# Altium footprint library FootprintLib.PcbLib: 194 footprints (part 9 of 13)
Each footprint in its own frame and in the unit in brackets; x right, y up, seen from the top. Pads: shape width x height; smd on the part's side, far side on the other; paste and mask are expansions set on the pad; w line width, h text height; cw(c..) or ccw(c..) is an arc to the next point about the centre after c.
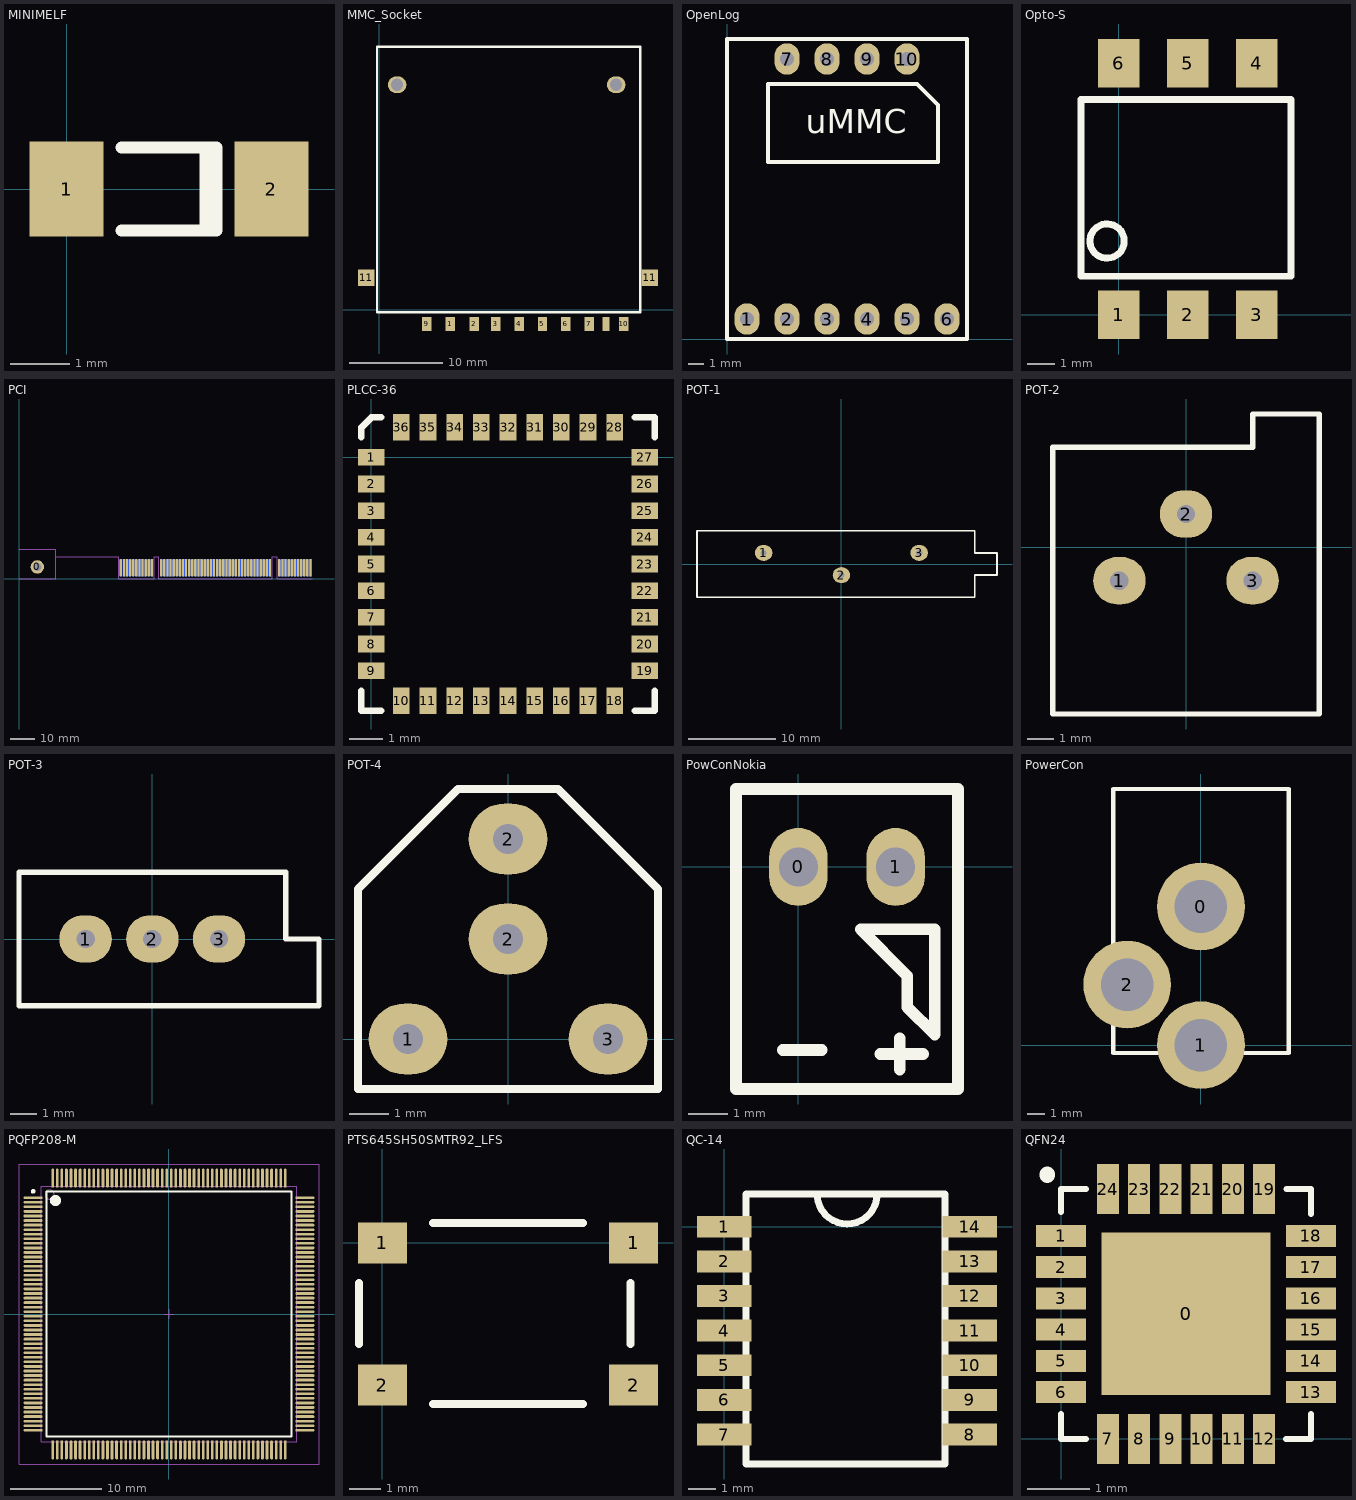
[diagram p8: the footprints below, top view; thin cyan lines are the x and y axes]

## MINIMELF [mm]
height 1.5
pads (2):
  rect 1.25x1.6 smd: 1(0,0) 2(3.45,0)
Top Overlay:
  lines w0.2: 0.925,-0.7 2.525,-0.7 2.525,0.7 0.925,0.7 ; 2.335,-0.7 2.335,0.7

## MMC_Socket [mil]
height 15
pads (14):
  rect 40x60 smd: 1(300,-60) 2(400,-60) 3(492.13,-60) 4(590.55,-60) 5(688.98,-60) 6(787.4,-60) 7(885.83,-60) 9(200,-60) 10(1031.5,-60)
  rect 30x60 smd: 8(956.69,-60)
  rect 70x70 smd: 11(-55.12,135) 11(1141.73,135)
  oval 78.74x70.87 hole 51.18 paste+40 mask+20: "Hole 1"(75,950)
  oval 78.74x70.87 hole 51.18 paste+20 mask+20: "Hole 2"(1000,950)
Top Overlay:
  lines w9.84: -10,-10 1102.36,-10 1102.36,1110 -10,1110 -10,-10

## OpenLog [mm]
height 5
pads (10):
  oval 1.6x2 hole 0.9: 1(1.27,1.27) 2(3.81,1.27) 3(6.35,1.27) 4(8.89,1.27) 5(11.43,1.27) 6(13.97,1.27) 7(3.81,17.78) 8(6.35,17.78) 9(8.89,17.78) 10(11.43,17.78)
Top Overlay:
  lines w0.254: 2.6,16.1 2.6,11.252 13.4,11.252 13.4,14.87 12.07,16.2 2.6,16.2 ; 0,0 15.24,0 15.24,19.05 0,19.05 0,0
  text "uMMC" at 5.004,13.056 h1.52

## Opto-S [mm]
height 4.3
pads (6):
  rect 1.524x1.78 smd: 1(0,0) 2(2.54,0) 3(5.08,0) 4(5.08,9.27) 5(2.54,9.27) 6(0,9.27)
Top Overlay:
  circle w0.254: c-0.432,2.718 r0.631
  lines w0.254: -1.4,7.925 6.35,7.925 6.35,1.425 ; -1.397,7.922 -1.397,1.422 6.353,1.422

## PCI [mm]
pads (117):
  round 5.5 hole 3.2: 0(7.5,4.83)
  rrect50% 0.95x7 smd far side: A1(41.6,4.5) A2(42.87,4.5) A3(44.14,4.5) A4(45.41,4.5) A5(46.68,4.5) A6(47.95,4.5) A7(49.22,4.5) A8(50.49,4.5) A9(51.76,4.5) A10(53.03,4.5) A11(54.3,4.5) A14(58.11,4.5) A15(59.38,4.5) A16(60.65,4.5) A17(61.92,4.5) A18(63.19,4.5) A19(64.46,4.5) A20(65.73,4.5) A21(67,4.5) A22(68.27,4.5) A23(69.54,4.5) A24(70.81,4.5) A25(72.08,4.5) A26(73.35,4.5) A27(74.62,4.5) A28(75.89,4.5) A29(77.16,4.5) A30(78.43,4.5) A31(79.7,4.5) A32(80.97,4.5) A33(82.24,4.5) A34(83.51,4.5) A35(84.78,4.5) A36(86.05,4.5) A37(87.32,4.5) A38(88.59,4.5) A39(89.86,4.5) A40(91.13,4.5) A41(92.4,4.5) A42(93.67,4.5) A43(94.94,4.5) A44(96.21,4.5) A45(97.48,4.5) A46(98.75,4.5) A47(100.02,4.5) A48(101.29,4.5) A49(102.56,4.5) A52(106.38,4.5) A53(107.65,4.5) A54(108.92,4.5) A55(110.19,4.5) A56(111.46,4.5) A57(112.73,4.5) A58(114,4.5) A59(115.27,4.5) A60(116.54,4.5) A61(117.81,4.5) A62(119.08,4.5)
  rrect50% 0.95x7 smd: B1(41.6,4.5) B2(42.87,4.5) B3(44.14,4.5) B4(45.41,4.5) B5(46.68,4.5) B6(47.95,4.5) B7(49.22,4.5) B8(50.49,4.5) B9(51.76,4.5) B10(53.03,4.5) B11(54.3,4.5) B14(58.11,4.5) B15(59.38,4.5) B16(60.65,4.5) B17(61.92,4.5) B18(63.19,4.5) B19(64.46,4.5) B20(65.73,4.5) B21(67,4.5) B22(68.27,4.5) B23(69.54,4.5) B24(70.81,4.5) B25(72.08,4.5) B26(73.35,4.5) B27(74.62,4.5) B28(75.89,4.5) B29(77.16,4.5) B30(78.43,4.5) B31(79.7,4.5) B32(80.97,4.5) B33(82.24,4.5) B34(83.51,4.5) B35(84.78,4.5) B36(86.05,4.5) B37(87.32,4.5) B38(88.59,4.5) B39(89.86,4.5) B40(91.13,4.5) B41(92.4,4.5) B42(93.67,4.5) B43(94.94,4.5) B44(96.21,4.5) B45(97.48,4.5) B46(98.75,4.5) B47(100.02,4.5) B48(101.29,4.5) B49(102.56,4.5) B52(106.38,4.5) B53(107.65,4.5) B54(108.92,4.5) B55(110.19,4.5) B56(111.46,4.5) B57(112.73,4.5) B58(114,4.5) B59(115.27,4.5) B60(116.54,4.5) B61(117.81,4.5) B62(119.08,4.5)
Mechanical 1:
  lines w0.1: 0,0 15.01,0 15.01,9 40.77,9 40.77,0 55.28,0 55.28,9 57.14,9 57.14,0 103.57,0 103.57,9 105.43,9 105.43,0 119.91,0 ; 0,12.07 15.01,12.07 15.01,8.71

## PLCC-36 [mm]
pads (36):
  rect 0.8x0.5 smd: 1(0,0) 2(0,-0.8) 3(0,-1.6) 4(0,-2.4) 5(0,-3.2) 6(0,-4) 7(0,-4.8) 8(0,-5.6) 9(0,-6.4) 19(8.2,-6.4) 20(8.2,-5.6) 21(8.2,-4.8) 22(8.2,-4) 23(8.2,-3.2) 24(8.2,-2.4) 25(8.2,-1.6) 26(8.2,-0.8) 27(8.2,0)
  rect 0.5x0.8 smd: 10(0.9,-7.3) 11(1.7,-7.3) 12(2.5,-7.3) 13(3.3,-7.3) 14(4.1,-7.3) 15(4.9,-7.3) 16(5.7,-7.3) 17(6.5,-7.3) 18(7.3,-7.3) 28(7.3,0.9) 29(6.5,0.9) 30(5.7,0.9) 31(4.9,0.9) 32(4.1,0.9) 33(3.3,0.9) 34(2.5,0.9) 35(1.7,0.9) 36(0.9,0.9)
Top Overlay:
  lines w0.2: -0.3,-7 -0.3,-7.6 0.3,-7.6 ; -0.3,0.6 -0.3,0.9 0,1.2 0.3,1.2 ; 7.9,-7.6 8.5,-7.6 8.5,-7 ; 7.9,1.2 8.5,1.2 8.5,0.6

## POT-1 [mm] "Tapped Resistor; 3 Leads"
pads (3):
  oval 2x1.8 hole 0.7: 1(-8.89,1.27) 2(0,-1.27) 3(8.89,1.27)
Top Overlay:
  lines w0.2: -16.51,-3.81 -16.51,3.81 15.24,3.81 15.24,1.27 17.78,1.27 17.78,-1.27 15.24,-1.27 15.24,-3.81 -16.51,-3.81

## POT-2 [mm] "Feed-Through Capacitor; 3 Leads"
pads (3):
  oval 2x1.8 hole 0.7: 1(-2.54,-1.27) 2(0,1.27) 3(2.54,-1.27)
Top Overlay:
  lines w0.2: -5.08,-6.35 5.08,-6.35 5.08,5.08 2.54,5.08 2.54,3.81 -5.08,3.81 -5.08,-6.35

## POT-3 [mm] "Potentiometer; 3 Leads"
pads (3):
  oval 2x1.8 hole 0.7: 1(-2.54,0) 2(0,0) 3(2.54,0)
Top Overlay:
  lines w0.2: -5.08,-2.54 6.35,-2.54 6.35,0 5.08,0 5.08,2.54 -5.08,2.54 -5.08,-2.54

## POT-4 [mm]
pads (4):
  oval 2x1.8 hole 0.762: 1(-2.54,0) 2(0,2.54) 2(0,5.08) 3(2.54,0)
Top Overlay:
  lines w0.2: -3.81,-1.27 3.81,-1.27 3.81,3.81 1.27,6.35 -1.27,6.35 -3.81,3.81 -3.81,-1.27

## PowConNokia [mm]
height 4
pads (2):
  oval 1.5x2 hole 1: 0(0,0) 1(2.5,0)
Top Overlay:
  lines w0.3: -0.4,-4.7 0.6,-4.7 ; 2.1,-4.8 3.2,-4.8 ; 2.6,-5.2 2.6,-4.4 ; -1.6,-5.7 -1.6,2 4.1,2 4.1,-5.7 -1.6,-5.7 ; 1.6,-1.6 3.5,-1.6 3.5,-4.3 2.8,-3.6 2.8,-2.8 1.6,-1.6

## PowerCon [mm]
pads (3):
  round 5 hole 3: 0(0,7.9) 1(0,0) 2(-4.2,3.45)
Top Overlay:
  lines w0.25: -5,14.55 -5,-0.45 5,-0.45 ; -5,14.6 5,14.6 5,-0.4

## PQFP208-M [mm]
height 4.1
pads (208):
  oval 2.1x0.3 smd: 1(-14.9,12.75) 2(-14.9,12.25) 3(-14.9,11.75) 4(-14.9,11.25) 5(-14.9,10.75) 6(-14.9,10.25) 7(-14.9,9.75) 8(-14.9,9.25) 9(-14.9,8.75) 10(-14.9,8.25) 11(-14.9,7.75) 12(-14.9,7.25) 13(-14.9,6.75) 14(-14.9,6.25) 15(-14.9,5.75) 16(-14.9,5.25) 17(-14.9,4.75) 18(-14.9,4.25) 19(-14.9,3.75) 20(-14.9,3.25) 21(-14.9,2.75) 22(-14.9,2.25) 23(-14.9,1.75) 24(-14.9,1.25) 25(-14.9,0.75) 26(-14.9,0.25) 27(-14.9,-0.25) 28(-14.9,-0.75) 29(-14.9,-1.25) 30(-14.9,-1.75) 31(-14.9,-2.25) 32(-14.9,-2.75) 33(-14.9,-3.25) 34(-14.9,-3.75) 35(-14.9,-4.25) 36(-14.9,-4.75) 37(-14.9,-5.25) 38(-14.9,-5.75) 39(-14.9,-6.25) 40(-14.9,-6.75) 41(-14.9,-7.25) 42(-14.9,-7.75) 43(-14.9,-8.25) 44(-14.9,-8.75) 45(-14.9,-9.25) 46(-14.9,-9.75) 47(-14.9,-10.25) 48(-14.9,-10.75) 49(-14.9,-11.25) 50(-14.9,-11.75) 51(-14.9,-12.25) 52(-14.9,-12.75) 105(14.9,-12.75) 106(14.9,-12.25) 107(14.9,-11.75) 108(14.9,-11.25) 109(14.9,-10.75) 110(14.9,-10.25) 111(14.9,-9.75) 112(14.9,-9.25) 113(14.9,-8.75) 114(14.9,-8.25) 115(14.9,-7.75) 116(14.9,-7.25) 117(14.9,-6.75) 118(14.9,-6.25) 119(14.9,-5.75) 120(14.9,-5.25) 121(14.9,-4.75) 122(14.9,-4.25) 123(14.9,-3.75) 124(14.9,-3.25) 125(14.9,-2.75) 126(14.9,-2.25) 127(14.9,-1.75) 128(14.9,-1.25) 129(14.9,-0.75) 130(14.9,-0.25) 131(14.9,0.25) 132(14.9,0.75) 133(14.9,1.25) 134(14.9,1.75) 135(14.9,2.25) 136(14.9,2.75) 137(14.9,3.25) 138(14.9,3.75) 139(14.9,4.25) 140(14.9,4.75) 141(14.9,5.25) 142(14.9,5.75) 143(14.9,6.25) 144(14.9,6.75) 145(14.9,7.25) 146(14.9,7.75) 147(14.9,8.25) 148(14.9,8.75) 149(14.9,9.25) 150(14.9,9.75) 151(14.9,10.25) 152(14.9,10.75) 153(14.9,11.25) 154(14.9,11.75) 155(14.9,12.25) 156(14.9,12.75)
  oval 0.3x2.1 smd: 53(-12.75,-14.9) 54(-12.25,-14.9) 55(-11.75,-14.9) 56(-11.25,-14.9) 57(-10.75,-14.9) 58(-10.25,-14.9) 59(-9.75,-14.9) 60(-9.25,-14.9) 61(-8.75,-14.9) 62(-8.25,-14.9) 63(-7.75,-14.9) 64(-7.25,-14.9) 65(-6.75,-14.9) 66(-6.25,-14.9) 67(-5.75,-14.9) 68(-5.25,-14.9) 69(-4.75,-14.9) 70(-4.25,-14.9) 71(-3.75,-14.9) 72(-3.25,-14.9) 73(-2.75,-14.9) 74(-2.25,-14.9) 75(-1.75,-14.9) 76(-1.25,-14.9) 77(-0.75,-14.9) 78(-0.25,-14.9) 79(0.25,-14.9) 80(0.75,-14.9) 81(1.25,-14.9) 82(1.75,-14.9) 83(2.25,-14.9) 84(2.75,-14.9) 85(3.25,-14.9) 86(3.75,-14.9) 87(4.25,-14.9) 88(4.75,-14.9) 89(5.25,-14.9) 90(5.75,-14.9) 91(6.25,-14.9) 92(6.75,-14.9) 93(7.25,-14.9) 94(7.75,-14.9) 95(8.25,-14.9) 96(8.75,-14.9) 97(9.25,-14.9) 98(9.75,-14.9) 99(10.25,-14.9) 100(10.75,-14.9) 101(11.25,-14.9) 102(11.75,-14.9) 103(12.25,-14.9) 104(12.75,-14.9) 157(12.75,14.9) 158(12.25,14.9) 159(11.75,14.9) 160(11.25,14.9) 161(10.75,14.9) 162(10.25,14.9) 163(9.75,14.9) 164(9.25,14.9) 165(8.75,14.9) 166(8.25,14.9) 167(7.75,14.9) 168(7.25,14.9) 169(6.75,14.9) 170(6.25,14.9) 171(5.75,14.9) 172(5.25,14.9) 173(4.75,14.9) 174(4.25,14.9) 175(3.75,14.9) 176(3.25,14.9) 177(2.75,14.9) 178(2.25,14.9) 179(1.75,14.9) 180(1.25,14.9) 181(0.75,14.9) 182(0.25,14.9) 183(-0.25,14.9) 184(-0.75,14.9) 185(-1.25,14.9) 186(-1.75,14.9) 187(-2.25,14.9) 188(-2.75,14.9) 189(-3.25,14.9) 190(-3.75,14.9) 191(-4.25,14.9) 192(-4.75,14.9) 193(-5.25,14.9) 194(-5.75,14.9) 195(-6.25,14.9) 196(-6.75,14.9) 197(-7.25,14.9) 198(-7.75,14.9) 199(-8.25,14.9) 200(-8.75,14.9) 201(-9.25,14.9) 202(-9.75,14.9) 203(-10.25,14.9) 204(-10.75,14.9) 205(-11.25,14.9) 206(-11.75,14.9) 207(-12.25,14.9) 208(-12.75,14.9)
Top Overlay:
  circle w0.25: c-14.9,13.45 r0.125
  circle w0.6: c-12.45,12.45 r0.3
  lines w0.2: -13.45,-13.45 -13.45,13.45 13.45,13.45 13.45,-13.45 -13.45,-13.45
Mechanical 13:
  circle w0.1: c-13.1,13.1 r0.5
  lines w0.1: -14,-14 -14,14 14,14 14,-14 -14,-14
Mechanical 15:
  lines w0.1: -0.5,0 0.5,0 ; 0,-0.5 0,0.5 ; -16.45,-16.45 -16.45,16.45 16.45,16.45 16.45,-16.45 -16.45,-16.45
3D body: height 4.1, standoff 0, extent -14,-14 14,14

## PTS645SH50SMTR92_LFS [mm] "Tactile switch"
pads (4):
  rect 1.55x1.3 smd: 1(0,0) 1(7.95,0) 2(0,-4.5) 2(7.95,-4.5)
Top Overlay:
  lines w0.254: -0.737,-3.2 -0.737,-1.27 ; 1.6,-5.105 6.35,-5.105 ; 1.6,0.635 6.35,0.635 ; 7.849,-3.2 7.849,-1.27

## QC-14 [mm]
height 5.5
pads (14):
  rect 2x0.8 smd: 1(0,0) 2(0,-1.27) 3(0,-2.54) 4(0,-3.81) 5(0,-5.08) 6(0,-6.35) 7(0,-7.62) 8(9,-7.62) 9(9,-6.35) 10(9,-5.08) 11(9,-3.81) 12(9,-2.54) 13(9,-1.27) 14(9,0)
Top Overlay:
  lines w0.254: 3.409,1.1 ccw(c4.505,1.2) 5.6,1.1 ; 0.8,-8.7 8.1,-8.7 8.1,1.2 0.8,1.2 0.8,-8.7

## QFN24 [mm]
height 1
pads (25):
  rect 2.7x2.6 smd: 0(2,2)
  rect 0.8x0.35 smd: 1(0,3.25) 2(0,2.75) 3(0,2.25) 4(0,1.75) 5(0,1.25) 6(0,0.75) 13(4,0.75) 14(4,1.25) 15(4,1.75) 16(4,2.25) 17(4,2.75) 18(4,3.25)
  rect 0.35x0.8 smd: 7(0.75,0) 8(1.25,0) 9(1.75,0) 10(2.25,0) 11(2.75,0) 12(3.25,0) 19(3.25,4) 20(2.75,4) 21(2.25,4) 22(1.75,4) 23(1.25,4) 24(0.75,4)
Top Overlay:
  lines w0.1: 0,0.4 0,0 0.4,0 ; 0,3.63 0,3.99 ; 0,4 0.4,4 ; 3.6,0 4,0 4,0.4 ; 3.61,4 4,4 4,3.6
  lines w0.254: -0.22,4.22 -0.22,4.23